# Altium schematic symbol library capmeter.SCHLIB: 1 symbol
Pins are listed as number, name and electrical type; pins without a type are passive.

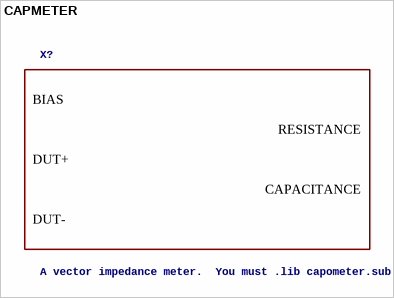
[diagram p0: symbol CAPMETER]

## CAPMETER
designator X?, comment A vector impedance meter.  You must .lib capometer.sub
SPICELINE: current=1m freq=3Meg C=.5µ Q=.25
pins: ?1 DUT+, ?2 DUT-, ?3 BIAS, ?4 RESISTANCE, ?5 CAPACITANCE